# Altium schematic symbol library DEP_REVC.SCHLIB: 11 symbols
Pins are listed as number, name and electrical type; pins without a type are passive.

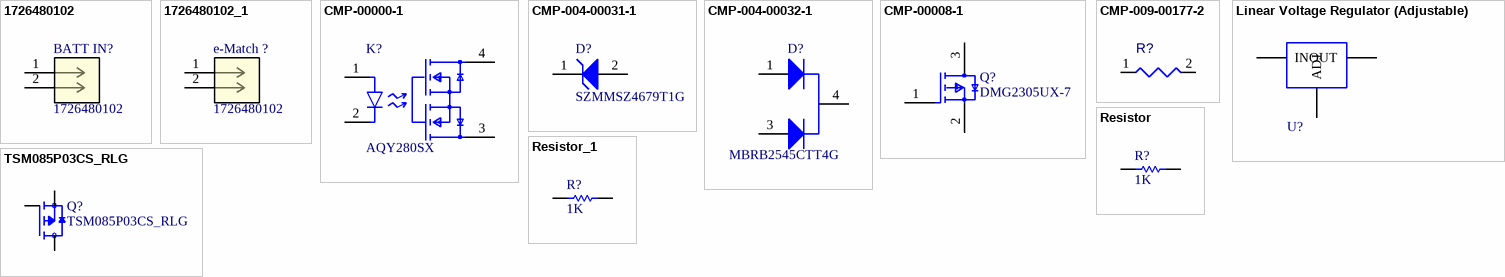
[diagram p0: symbols 1726480102 to TSM085P03CS_RLG]

## 1726480102
designator BATT IN?
No Description Available; Mfr_Name: Molex Connector Corporation; Copyright: Copyright (C) 2022 Ultra Librarian. All rights reserved.; Manufacturer_Part_Number: 1726480102; RefDes: RefDes; Type: DEV
footprint CON_1726480102
pins: 1, 2

## 1726480102_1
designator e-Match ?, comment 1726480102
No Description Available; Mfr_Name: Molex Connector Corporation; Copyright: Copyright (C) 2022 Ultra Librarian. All rights reserved.; Manufacturer_Part_Number: 1726480102; RefDes: RefDes; Type: DEV
footprint CON_1726480102
pins: 1, 2

## CMP-00000-1
designator K?, comment AQY280SX
Relay Ssr 50MA 1.5V Dc-in 0.5A 60V Ac/dc-out 4-PIN Sop T/r; Manufacturer: Panasonic; Manufacturer Part Number: AQY282SZ; Manufacturer Part Number: AQY280SZ; Output Current: 500mA; Isolation Voltage: 1.5kV; Input Type: DC; Throw Configuration: SPST; Forward Current: 1.8mA; On-State Resistance: 2.5R; RoHS Compliant: Yes; Max Operating Temperature: 85°C; Max Input Current: 50mA; Number of Pins: 4; Isolation Voltage-Max: 1.5kV; Lead Free: Lead Free; Case/Package: SOP; Max Input Voltage: 1.5V; Height: 2.7mm; Radiation Hardening: No; Output Voltage: 60V; Input Current: 50mA; Max Output Current: 500mA; Series: PhotoMOS™ AQY; Min Operating Temperature: -40°C; Package Quantity: 1000; Load Current: 500mA; Termination: Gull Wing; Mount: Surface Mount; Relay Type: Relay; Max Output Voltage: 60V; Length: 6.4mm; Width: 4.78mm; REACH SVHC: No SVHC; Packaging: Tape and Reel; On-state Resistance-Max: 2.5R; Component Type: Optoelectronics
footprint FP-AQY282SZ-IPC_A
footprint FP-AQY282SZ-MFG
footprint FP-AQY282SZ-IPC_C
footprint FP-AQY282SZ-IPC_B
pins: 1 DC+, 2 DC-, 3 1 AC/DC, 4 2 AC/DC

## CMP-004-00031-1
designator D?, comment SZMMSZ4679T1G
Low Current Zener Diode Voltage Regulator 2.0 V; Manufacturer: ON Semiconductor; Max Power Dissipation: 500mW; Lead Free: Lead Free; Case/Package: SOD-123-2; Max Operating Temperature: 150°C; Manufacturer Part Number: SZMMSZ4679T1G; Component Type: Diodes
footprint ONSC-SOD-123-2-425-04_V (SOD, 2-Leads, Body 2.69x1.6mm)
pins: 1 K, 2 A

## CMP-004-00032-1
designator D?, comment MBRB2545CTT4G
Rectifier Diode Schottky 45V 30A 3-Pin(2+Tab) D2PAK T/R; Manufacturer: ON Semiconductor; Case/Package: D2PAK; Manufacturer Part Number: MBRB2545CTT4G; Component Type: Diodes
footprint ONSC-D2PAK-3-418B-04_V (DPAK, 3-Leads, Body 9.97x9.145mm, Pitch 2.54mm)
pins: 1 A1, 3 A2, 4 K

## CMP-00008-1
designator Q?, comment DMG2305UX-7
P-Channel 20 V 52 mOhm Surface Mount Enhancement Mode Mosfet - SOT-23-3; Manufacturer: Diodes; Element Configuration: Single; Turn-On Delay Time: 10.8ns; Max Power Dissipation: 1.4W; Continuous Drain Current (ID): 4.2A; Fall Time: 34.7ns; Gate to Source Voltage (Vgs): 8V; Rise Time: 13.7ns; Drain-source On Resistance-Max: 52MR; Turn-Off Delay Time: 79.3ns; Threshold Voltage: -900mV; Input Capacitance: 808pF; Drain to Source Voltage (Vdss): 20V; Drain to Source Resistance: 200mR; Number of Channels: 1; Lead Free: Lead Free; Case/Package: SOT-23; Number of Pins: 3; Weight: 0.000282oz; Package Quantity: 1; Height: 1.1mm; Packaging: Tape and Reel; Polarity: P-CHANNEL; Mount: Surface Mount; Reach SVHC Compliant: Yes; Max Operating Temperature: 150°C; Radiation Hardening: No; Width: 1.4mm; Min Operating Temperature: -55°C; Length: 3mm; Contact Plating: Tin,Matte; RoHS Compliant: Yes; On-State Resistance: 52MR; Rds On Max: 52mR; Series: -; Manufacturer Part Number: DMG2305UX-7
footprint FP-SOT23-IPC_C
footprint FP-SOT23-MFG
footprint FP-SOT23-IPC_A
footprint FP-SOT23-IPC_B
pins: 1 GATE, 2 SOURCE, 3 DRAIN

## CMP-009-00177-2
designator R?, comment 35221R5JT  (value not drawn)
Res Thick Film 2512 1.5 Ohm 5% 3W ±200ppm/°C Molded SMD T/R; Manufacturer: TE Connectivity CGS; Voltage Rating (DC): 250V; Resistance: 1.5; Power Rating: 3W; Voltage Rating: 250V; Mount: Surface Mount; Max Power Dissipation: 3W; Case Code (Metric): 6432; Resistance Tolerance: 5%; Manufacturer Part Number: 35221R5JT; Component Type: Resistors
footprint RESC6432X12N (Chip Resistor, 2-Leads, Body 6.35x3.20mm, IPC Medium Density)
pins: 1, 2
1 alternate drawing of the same symbol

## Linear Voltage Regulator (Adjustable)
designator U?, comment Positive Adjustable Voltage Regulator  (value not drawn)
SimulationGenericComponent: True
simulation model LM317 (POSITIVE ADJUSTABLE VOLTAGE REGULATOR)
footprint FP-936-03-MFG; pin to pad 1>3 2>1 3>4
pins: 1 IN, 2 ADJ, 3 OUT

## Resistor
designator R?  value 1K  (hidden comment: Resistor)
TC1: 0; SimulationGenericComponent: True; TC2: 0
simulation model R_Resistor_Default (Model Description)
footprint 6-0805_N (Chip Resistor, Body 2.0x1.2mm, IPC Medium Density)
pins: 1, 2

## Resistor_1
designator R?, comment value 1K  (hidden comment: Resistor)
TC1: 0; SimulationGenericComponent: True; TC2: 0
simulation model R_Resistor_Default (Model Description)
footprint 6-0805_N (Chip Resistor, Body 2.0x1.2mm, IPC Medium Density)
pins: 1, 2

## TSM085P03CS_RLG
designator Q?
MF: {'manufacturer': u'Taiwan Semiconductor'}; Value: *; Price: None; Package: None; Availability: Unavailable; MP: TSM085P03CS_RLG
footprint SOP127P600X200-8N
pins: 1 S, 2 S, 3 S, 4 G, 5 D, 6 D, 7 D, 8 D